# Altium footprint library composants actifs.pcblib: 55 footprints (part 3 of 4)
Each footprint in its own frame and in the unit in brackets; x right, y up, seen from the top. Pads: shape width x height; smd on the part's side, far side on the other; paste and mask are expansions set on the pad; w line width, h text height; cw(c..) or ccw(c..) is an arc to the next point about the centre after c.
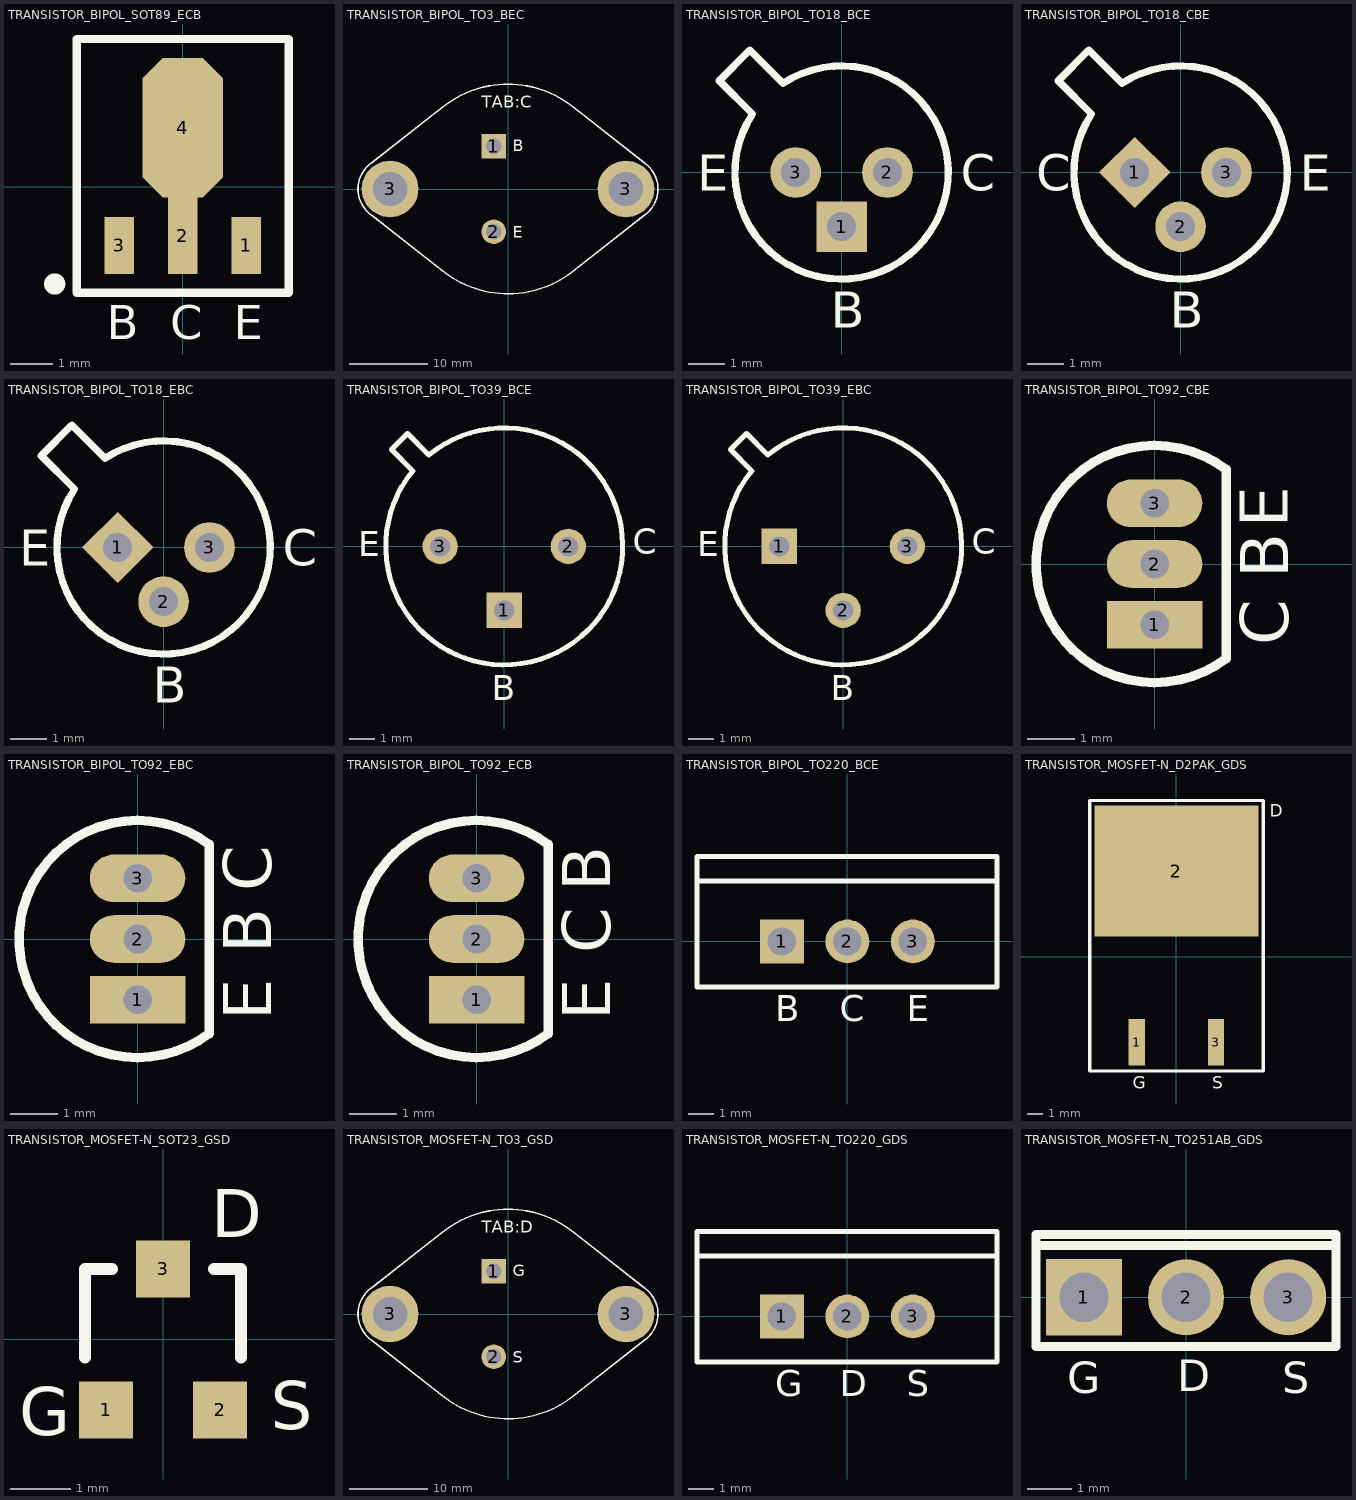
[diagram p2: the footprints below, top view; thin cyan lines are the x and y axes]

## TRANSISTOR_BIPOL_SOT89_ECB [mm] "TRANSISTOR SOT-89 BIS ; DIMENSIONS : 4.6mm x 4.25mm"
height 1.6
pads (4):
  rect 0.7x1.35 smd: 1(1.5,-1.388) 3(-1.5,-1.388)
  rect 0.7x1.8 smd: 2(0,-1.162)
  oct 1.9x3.3 smd: 4(0,1.388)
Top Overlay:
  circle w0.25: c-3.025,-2.3 r0.125
  lines w0.2: -2.5,-2.512 2.5,-2.512 2.5,3.487 -2.5,3.487 -2.5,-2.512
  text "B" at -1.8,-3.6 h0.8
  text "C" at -0.3,-3.6 h0.8
  text "E" at 1.2,-3.6 h0.8
3D body "boitier SOT89.STEP": height 1.59, standoff -0.02, extent -2.32,-1.63 2.28,2.62

## TRANSISTOR_BIPOL_TO3_BEC [mm] "TRANSISTOR TO3 ; DIMENSIONS : 26.7mm x 38.3mm ; ESPACEMENT BROCHES : 10.92mm"
height 7.87
pads (4):
  rect 3.15x3.15 hole 2: 1(-1.815,5.46)
  round 3.15 hole 2: 2(-1.815,-5.46)
  round 7.25 hole 4.4: 3(-15.075,0) 3(15.075,0)
Top Overlay:
  lines w0.2: -17.427,-3.359 -8.299,-10.521 ; -17.427,-3.358 cw(c-15.075,0) -17.427,3.359 -8.299,10.521 ; -8.613,-10.265 ccw(c0,0) 8.298,-10.521 17.427,-3.359 ; -8.613,10.265 cw(c0,0) 8.613,10.265 ; 8.299,10.521 17.427,3.359 ; 17.308,3.439 cw(c15.075,0) 17.427,-3.358
  text "TAB:C" at -3.33,10.37 h1.52
  text "E" at 0.61,-6.23 h1.5
  text "B" at 0.63,4.83 h1.5
3D body "boitier TO3.STEP": height 6.39, standoff -2.47, extent -19.7,-13.2 19.822,13.013

## TRANSISTOR_BIPOL_TO18_BCE [mm] "BOITIER TO18 ; DIAMETRE : 6mm ; ESPACEMENT BROCHES 1-3 : 2.54mm ; PERCAGE : 0.6mm"
height 5.33
pads (3):
  rect 1.4x1.4 hole 0.8: 1(0,-1.5)
  round 1.4 hole 0.8: 2(1.27,0) 3(-1.27,0)
Top Overlay:
  lines w0.2: -3.386,2.537 -2.537,3.386 -1.618,2.467 cw(c0,0) -2.467,1.618 -3.386,2.537
  text "E" at -4,-0.5 h1
  text "B" at -0.3,-4.3 h1
  text "C" at 3.3,-0.5 h1
3D body "User Library-TO-18-2.STEP": height 5.41, standoff -4.5, extent -2.974,-2.714 2.72,2.921

## TRANSISTOR_BIPOL_TO18_CBE [mm] "BOITIER TO18 ; DIAMETRE : 6mm ; ESPACEMENT BROCHES 1-3 : 2.54mm ; PERCAGE : 0.6mm"
height 5.33
pads (3):
  rect 1.4x1.4 hole 0.8 rot 45: 1(-1.27,0)
  round 1.4 hole 0.8: 2(0,-1.5) 3(1.27,0)
Top Overlay:
  lines w0.2: -3.386,2.537 -2.467,1.618 ccw(c0,0) -1.618,2.467 -2.537,3.386 -3.386,2.537
  text "E" at 3.3,-0.5 h1
  text "B" at -0.3,-4.3 h1
  text "C" at -4,-0.5 h1

## TRANSISTOR_BIPOL_TO18_EBC [mm] "BOITIER TO18 ; DIAMETRE : 6mm ; ESPACEMENT BROCHES 1-3 : 2.54mm ; PERCAGE : 0.6mm"
height 5.33
pads (3):
  rect 1.4x1.4 hole 0.8 rot 45: 1(-1.27,0)
  round 1.4 hole 0.8: 2(0,-1.5) 3(1.27,0)
Top Overlay:
  lines w0.2: -3.386,2.537 -2.467,1.618 ccw(c0,0) -1.618,2.467 -2.537,3.386 -3.386,2.537
  text "C" at 3.3,-0.5 h1
  text "B" at -0.3,-4.3 h1
  text "E" at -4,-0.5 h1

## TRANSISTOR_BIPOL_TO39_BCE [mm] "TRANSISTOR TO39; 3 BROCHES; DIAMETRE : 9.3mm; PERCAGE : 0.6mm"
height 4.55
pads (3):
  rect 1.4x1.4 hole 0.8: 1(0,-2.54)
  round 1.4 hole 0.8: 2(2.54,0) 3(-2.54,0)
Top Overlay:
  lines w0.2: -4.475,3.838 -3.626,2.99 ccw(c0,0) -2.99,3.626 -3.838,4.475 -4.475,3.838
  text "E" at -5.8,-0.4 h1
  text "B" at -0.5,-6.1 h1
  text "C" at 5.1,-0.3 h1
3D body "boitier TO39.STEP": height 3.35, standoff -4.95, extent -4.683,-4.68 4.603,4.62

## TRANSISTOR_BIPOL_TO39_EBC [mm] "TRANSISTOR TO39; 3 BROCHES; DIAMETRE : 9.3mm; PERCAGE : 0.6mm"
height 4.55
pads (3):
  rect 1.4x1.4 hole 0.8: 1(-2.54,0)
  round 1.4 hole 0.8: 2(0,-2.54) 3(2.54,0)
Top Overlay:
  lines w0.2: -4.475,3.838 -3.626,2.99 ccw(c0,0) -2.99,3.626 -3.838,4.475 -4.475,3.838
  text "E" at -5.8,-0.4 h1
  text "B" at -0.5,-6.1 h1
  text "C" at 5.1,-0.3 h1
3D body "boitier TO39.STEP": height 3.35, standoff -4.95, extent -4.683,-4.68 4.603,4.62

## TRANSISTOR_BIPOL_TO92_CBE [mm] "TRANSISTOR TO92 ; 3 BROCHES EN LIGNE; DIAMETRE CORPS : 4.5mm ; BROCHES : 0.51mm x 0.48mm"
height 6.86
pads (3):
  rect 2x1 hole 0.6: 1(0,-1.27)
  oval 2x1 hole 0.6: 2(0,0) 3(0,1.27)
Top Overlay:
  lines w0.2: 1.5,-1.98 cw(c0,0) 1.5,1.98 1.5,-1.98
  text "B" at 2.8,-0.3 h1
  text "E" at 2.794,0.762 h1
  text "C" at 2.8,-1.7 h1
3D body "boitier TO92.STEP": height 6, standoff -5, extent -2.43,-2.4 1.5,2.4

## TRANSISTOR_BIPOL_TO92_EBC [mm] "TRANSISTOR TO92 ; 3 BROCHES EN LIGNE; DIAMETRE CORPS : 4.5mm ; BROCHES : 0.51mm x 0.48mm"
height 6.86
pads (3):
  rect 2x1 hole 0.6: 1(0,-1.27)
  oval 2x1 hole 0.6: 2(0,0) 3(0,1.27)
Top Overlay:
  lines w0.2: 1.5,-1.98 cw(c0,0) 1.5,1.98 1.5,-1.98
  text "B" at 2.8,-0.3 h1
  text "C" at 2.8,1 h1
  text "E" at 2.8,-1.7 h1
3D body "boitier TO92.STEP": height 6, standoff -5, extent -2.43,-2.4 1.5,2.4

## TRANSISTOR_BIPOL_TO92_ECB [mm] "TRANSISTOR TO92 ; 3 BROCHES EN LIGNE; DIAMETRE CORPS : 4.5mm ; BROCHES : 0.51mm x 0.48mm"
height 6.86
pads (3):
  rect 2x1 hole 0.6: 1(0,-1.27)
  oval 2x1 hole 0.6: 2(0,0) 3(0,1.27)
Top Overlay:
  lines w0.2: 1.5,-1.98 cw(c0,0) 1.5,1.98 1.5,-1.98
  text "C" at 2.8,-0.3 h1
  text "B" at 2.8,1 h1
  text "E" at 2.8,-1.7 h1
3D body "boitier TO92.STEP": height 6, standoff -5, extent -2.43,-2.4 1.5,2.4

## TRANSISTOR_BIPOL_TO220_BCE [mm] "BOITIER TO220 ; DIMENSIONS : 11.2mm x 4.7mm ; ESPACEMENT BROCHES : 2.54 mm"
height 22.9
pads (3):
  rect 1.7x1.7 hole 1.1: 1(-2.54,0)
  round 1.7 hole 1.1: 2(0,0) 3(2.54,0)
Top Overlay:
  lines w0.2: -5.83,2.35 5.8,2.35 ; -5.83,-1.77 5.8,-1.77 5.8,3.29 -5.83,3.29 -5.83,-1.77
  text "B" at -2.8,-3.1 h1
  text "C" at -0.3,-3.1 h1
  text "E" at 2.3,-3.1 h1
3D body "boiter TO220.STEP": height 19.33, standoff -10, extent -5.607,-1.59 5.607,3.1

## TRANSISTOR_MOSFET-N_D2PAK_GDS [mm] "TRANSISTOR MOSFET CANAL N BOITIER D2PAK ; DIMENSIONS : 15.5mm x 10.5 mm"
height 4.69
pads (3):
  rect 1.05x3 smd: 1(-2.54,-5.5) 3(2.54,-5.5)
  rect 10.55x8.4 smd: 2(0,5.5)
Top Overlay:
  lines w0.2: -5.57,-7.35 5.575,-7.35 5.575,10.04 -5.57,10.04 -5.57,-7.35
  text "D" at 6,9 h0.8
  text "S" at 2.3,-8.5 h0.8
  text "G" at -2.8,-8.5 h0.8
3D body "boitier D2PAK.STEP": height 4.98, standoff -0.03, extent -5.12,-6.162 5.04,9.102

## TRANSISTOR_MOSFET-N_SOT23_GSD [mm] "SOT23 ; DIMENSIONS : 3.0mm x 2.5 mm"
height 1.2
pads (3):
  rect 0.9x0.95 smd: 1(-0.95,-1.175) 2(0.95,-1.175) 3(0,1.175)
Top Overlay:
  lines w0.2: -1.3,-0.3 -1.3,1.175 -0.85,1.175 ; 0.85,1.175 1.3,1.175 1.3,-0.3
  text "G" at -2.4,-1.6 h0.8
  text "S" at 1.8,-1.5 h0.8
  text "D" at 0.8,1.7 h0.8
3D body "boitier SOT23.STEP": height 1.1, standoff 0, extent -1.5,-1.569 1.5,1.569

## TRANSISTOR_MOSFET-N_TO3_GSD [mm] "TRANSISTOR TO3 ; DIMENSIONS : 26.7mm x 38.3mm ; ESPACEMENT BROCHES : 10.92mm"
height 7.87
pads (4):
  rect 3.15x3.15 hole 2: 1(-1.815,5.46)
  round 3.15 hole 2: 2(-1.815,-5.46)
  round 7.25 hole 4.4: 3(-15.075,0) 3(15.075,0)
Top Overlay:
  lines w0.2: -17.427,-3.359 -8.299,-10.521 ; -17.427,-3.358 cw(c-15.075,0) -17.427,3.359 -8.299,10.521 ; -8.613,-10.265 ccw(c0,0) 8.298,-10.521 17.427,-3.359 ; -8.613,10.265 cw(c0,0) 8.613,10.265 ; 8.299,10.521 17.427,3.359 ; 17.308,3.439 cw(c15.075,0) 17.427,-3.358
  text "G" at 0.63,4.83 h1.5
  text "S" at 0.61,-6.23 h1.5
  text "TAB:D" at -3.33,10.37 h1.52
3D body "boitier TO3.STEP": height 6.39, standoff -2.47, extent -19.7,-13.2 19.822,13.013

## TRANSISTOR_MOSFET-N_TO220_GDS [mm] "BOITIER TO220 ; DIMENSIONS : 11.2mm x 4.7mm ; ESPACEMENT BROCHES : 2.54 mm"
height 22.9
pads (3):
  rect 1.7x1.7 hole 1.1: 1(-2.54,0)
  round 1.7 hole 1.1: 2(0,0) 3(2.54,0)
Top Overlay:
  lines w0.2: -5.83,2.35 5.8,2.35 ; -5.83,-1.77 -5.83,3.29 5.8,3.29 5.8,-1.77 -5.83,-1.77
  text "S" at 2.3,-3.1 h1
  text "D" at -0.3,-3.1 h1
  text "G" at -2.8,-3.1 h1
3D body "boiter TO220.STEP": height 19.33, standoff -10, extent -5.607,-1.59 5.607,3.1

## TRANSISTOR_MOSFET-N_TO251AB_GDS [mm] "BOITIER TO251AB ; DIMENSIONS : 11.2mm x 4.7mm ; ESPACEMENT BROCHES : 2.28 mm"
height 8
pads (3):
  rect 1.7x1.7 hole 1.1: 1(-2.28,0)
  round 1.7 hole 1.1: 2(0,0) 3(2.28,0)
Top Overlay:
  lines w0.2: -3.35,1.15 3.35,1.15 ; -3.35,-1.1 -3.35,1.4 3.35,1.4 3.35,-1.1 -3.35,-1.1
  text "S" at 2.15,-2.15 h0.7
  text "D" at -0.2,-2.1 h0.7
  text "G" at -2.65,-2.15 h0.7
3D body "JEDEC_TO-251AB_IPAK-V.STEP": height 10.71, standoff -12.15, extent -3.199,-0.988 3.299,1.4